# EAGLE library part STM32F103XX_CAN-IO-EXPANDER (library tera-boards)
Tera CAN-IO Expander Board
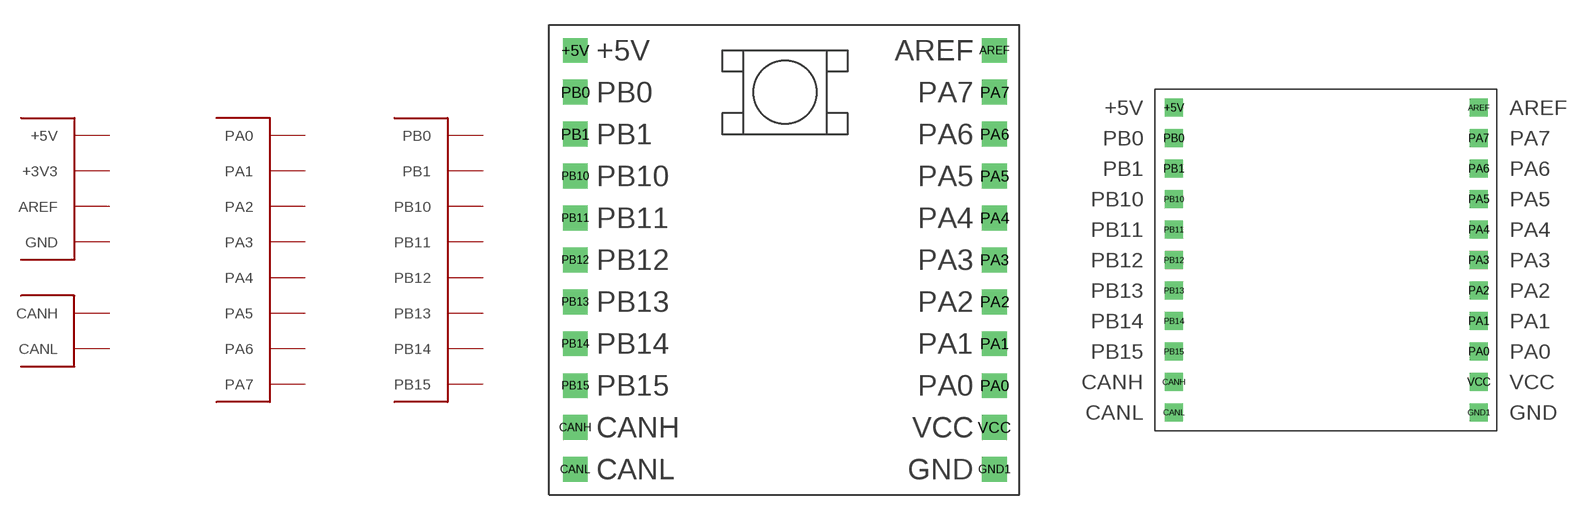
[diagram p5: symbol with the pads of STM32F103XX_CANIO-EXPANDER; footprints STM32F103XX_CANIO-EXPANDER, STM32F103XX_CANIO-EXPANDER2]

Designator prefix CANIO_; gates G$1=CAN-IO-EXPANDER_PWR G$2=CAN-IO-EXPANDER_PORTA G$3=CAN-IO-EXPANDER_PORTB G$4=CAN

## STM32F103XX_CAN-IO-EXPANDERA  [STM32F103XX_CANIO-EXPANDER]
+5V  G$1:+5V  pwr
AREF  G$1:AREF  out
CANH  G$4:CANH
CANL  G$4:CANL
GND1  G$1:GND  sup
PA0  G$2:PA0
PA1  G$2:PA1
PA2  G$2:PA2
PA3  G$2:PA3
PA4  G$2:PA4
PA5  G$2:PA5
PA6  G$2:PA6
PA7  G$2:PA7
PB0  G$3:PB0
PB1  G$3:PB1
PB10  G$3:PB10
PB11  G$3:PB11
PB12  G$3:PB12
PB13  G$3:PB13
PB14  G$3:PB14
PB15  G$3:PB15
VCC  G$1:+3V3  pwr

## STM32F103XX_CAN-IO-EXPANDERB  [STM32F103XX_CANIO-EXPANDER2]
Pads as for STM32F103XX_CANIO-EXPANDER

## STM32F103XX_CAN-IO-EXPANDERC  [STM32F103XX_CANIO-EXPANDER3]
Pads as for STM32F103XX_CANIO-EXPANDER

## Footprint STM32F103XX_CANIO-EXPANDER (pad centres in mm)
CAN-IO-Expander with STM32F103xx
drill 1 square: +5V 0,0; AREF 25.4,0; CANH 0,-22.86; CANL 0,-25.4; GND1 25.4,-25.4; PA0 25.4,-20.32; PA1 25.4,-17.78; PA2 25.4,-15.24; PA3 25.4,-12.7; PA4 25.4,-10.16; PA5 25.4,-7.62; PA6 25.4,-5.08; PA7 25.4,-2.54; PB0 0,-2.54; PB1 0,-5.08; PB10 0,-7.62; PB11 0,-10.16; PB12 0,-12.7; PB13 0,-15.24; PB14 0,-17.78; PB15 0,-20.32; VCC 25.4,-22.86

## Footprint STM32F103XX_CANIO-EXPANDER2 (pad centres in mm)
drill 1 square: +5V 0,0; AREF 25.4,0; CANH 0,-22.86; CANL 0,-25.4; GND1 25.4,-25.4; PA0 25.4,-20.32; PA1 25.4,-17.78; PA2 25.4,-15.24; PA3 25.4,-12.7; PA4 25.4,-10.16; PA5 25.4,-7.62; PA6 25.4,-5.08; PA7 25.4,-2.54; PB0 0,-2.54; PB1 0,-5.08; PB10 0,-7.62; PB11 0,-10.16; PB12 0,-12.7; PB13 0,-15.24; PB14 0,-17.78; PB15 0,-20.32; VCC 25.4,-22.86

## Footprint STM32F103XX_CANIO-EXPANDER3 (pad centres in mm)
drill 1: +5V -12.7,12.7; AREF 12.7,12.7; CANH -12.7,-10.16; CANL -12.7,-12.7; GND1 12.7,-12.7; PA0 12.7,-7.62; PA1 12.7,-5.08; PA2 12.7,-2.54; PA3 12.7,0; PA4 12.7,2.54; PA5 12.7,5.08; PA6 12.7,7.62; PA7 12.7,10.16; PB0 -12.7,10.16; PB1 -12.7,7.62; PB10 -12.7,5.08; PB11 -12.7,2.54; PB12 -12.7,0; PB13 -12.7,-2.54; PB14 -12.7,-5.08; PB15 -12.7,-7.62; VCC 12.7,-10.16